# EAGLE library part LTC5552IUDBTRMPBF (library My_Library_RADAR)
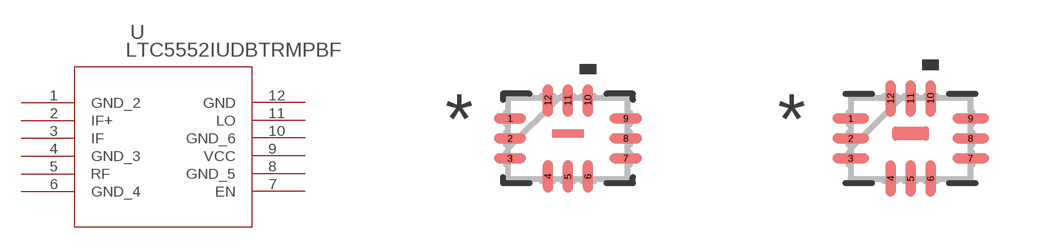
[diagram p2: symbol with the pads of UDB_12_ADI; footprints UDB_12_ADI, UDB_12_ADI-M]

Designator prefix U

## LTC5552IUDBTRMPBF (COPYRIGHT: Copyright (C) 2024 Ultra Librarian. All rights reserved.; MANUFACTURER_PART_NUMBER: LTC5552IUDB#TRMPBF; MFR_NAME: Analog Devices Inc)  [UDB_12_ADI]
1  GND_2  pas
2  IF+  pas
3  IF  pas
4  GND_3  pas
5  RF  pas
6  GND_4  pas
7  EN  pas
8  GND_5  pas
9  VCC  pwr
10  GND_6  pas
11  LO  pas
12  GND  pas

## LTC5552IUDBTRMPBFUDB_12_ADI-M (COPYRIGHT: Copyright (C) 2024 Ultra Librarian. All rights reserved.; MANUFACTURER_PART_NUMBER: LTC5552IUDB#TRMPBF; MFR_NAME: Analog Devices Inc)  [UDB_12_ADI-M]
Pads as for UDB_12_ADI

## LTC5552IUDBTRMPBFUDB_12_ADI-L (COPYRIGHT: Copyright (C) 2024 Ultra Librarian. All rights reserved.; MANUFACTURER_PART_NUMBER: LTC5552IUDB#TRMPBF; MFR_NAME: Analog Devices Inc)  [UDB_12_ADI-L]
Pads as for UDB_12_ADI

## Footprint UDB_12_ADI (pad centres in mm)
smd 0.813 x 0.254: 1 -1.448,0.5; 2 -1.448,0; 3 -1.448,-0.5; 7 1.448,-0.5; 8 1.448,0; 9 1.448,0.5
smd 0.254 x 0.813: 4 -0.5,-0.953; 5 0,-0.953; 6 0.5,-0.953; 10 0.5,0.953; 11 0,0.953; 12 -0.5,0.953

## Footprint UDB_12_ADI-M (pad centres in mm)
smd 0.914 x 0.254: 1 -1.499,0.5; 2 -1.499,0; 3 -1.499,-0.5; 7 1.499,-0.5; 8 1.499,0; 9 1.499,0.5
smd 0.254 x 0.914: 4 -0.5,-1.003; 5 0,-1.003; 6 0.5,-1.003; 10 0.5,1.003; 11 0,1.003; 12 -0.5,1.003

## Footprint UDB_12_ADI-L (pad centres in mm)
smd 0.711 x 0.254: 1 -1.397,0.5; 2 -1.397,0; 3 -1.397,-0.5; 7 1.397,-0.5; 8 1.397,0; 9 1.397,0.5
smd 0.254 x 0.711: 4 -0.5,-0.902; 5 0,-0.902; 6 0.5,-0.902; 10 0.5,0.902; 11 0,0.902; 12 -0.5,0.902